# Altium footprint library ATA5283.PCBLIB: 1 footprints
Each footprint in its own frame and in the unit in brackets; x right, y up, seen from the top. Pads: shape width x height; smd on the part's side, far side on the other; paste and mask are expansions set on the pad; w line width, h text height; cw(c..) or ccw(c..) is an arc to the next point about the centre after c.
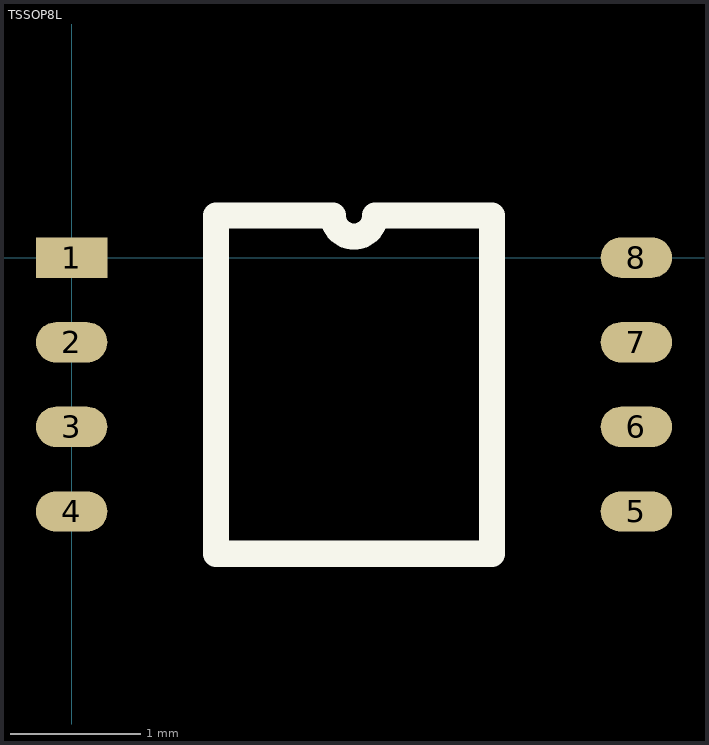
[diagram p0: the footprint, top view; thin cyan lines are the x and y axes]

## TSSOP8L [mm]
height 0.85
pads (8):
  rect 0.55x0.31 smd: 1(0,0)
  oval 0.55x0.31 smd: 2(0,-0.65) 3(0,-1.3) 4(0,-1.95) 5(4.34,-1.95) 6(4.34,-1.3) 7(4.34,-0.65) 8(4.34,0)
Top Overlay:
  lines w0.2: 1.11,-2.275 3.23,-2.275 3.23,0.325 2.332,0.325 cw(c2.17,0.325) 2.007,0.325 1.11,0.325 1.11,-2.275